# Altium schematic symbol library InterfaceG.SchLib: 3 symbols
Pins are listed as number, name and electrical type; pins without a type are passive.

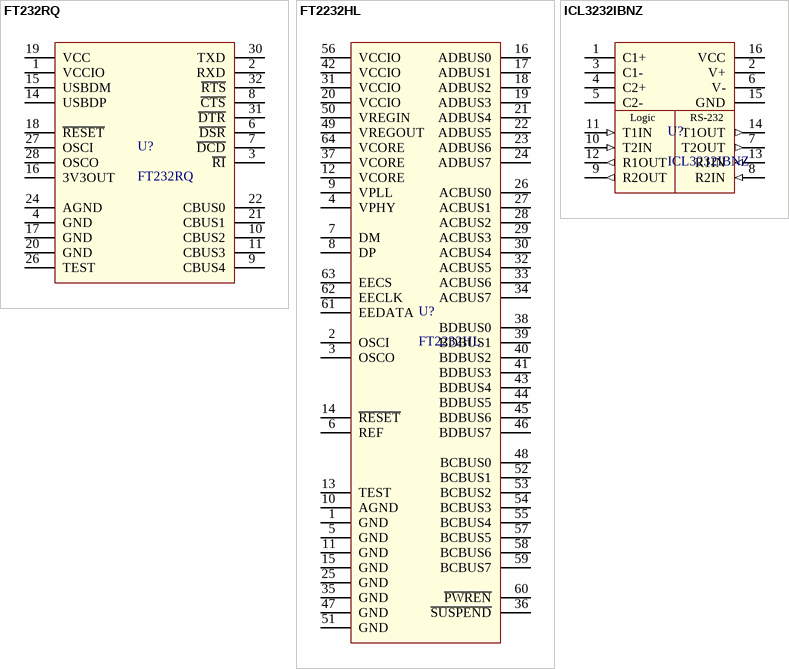
[diagram p0: symbols FT232RQ to ICL3232IBNZ]

## FT232RQ
designator U?
USB to serial UART interface
pins: 1 VCCIO, 2 RXD, 3 ~{RI}, 4 GND, 6 ~{DSR}, 7 ~{DCD}, 8 ~{CTS}, 9 CBUS4, 10 CBUS2, 11 CBUS3, 14 USBDP, 15 USBDM, 16 3V3OUT, 17 GND, 18 ~{RESET}, 19 VCC, 20 GND, 21 CBUS1, 22 CBUS0, 24 AGND, 26 TEST, 27 OSCI, 28 OSCO, 30 TXD, 31 ~{DTR}, 32 ~{RTS}

## FT2232HL
designator U?
Dual High-Speed USB to Multi-purpose UART/FIFO
footprint SQFP50P1200X1200-64N (Shrink QFP, 64-Leads, Body 10x10mm, Pitch 0.5mm, IPC Medium Density)
pins: 1 GND, 2 OSCI, 3 OSCO, 4 VPHY, 5 GND, 6 REF, 7 DM, 8 DP, 9 VPLL, 10 AGND, 11 GND, 12 VCORE, 13 TEST, 14 ~{RESET}, 15 GND, 16 ADBUS0, 17 ADBUS1, 18 ADBUS2, 19 ADBUS3, 20 VCCIO, 21 ADBUS4, 22 ADBUS5, 23 ADBUS6, 24 ADBUS7, 25 GND, 26 ACBUS0, 27 ACBUS1, 28 ACBUS2, 29 ACBUS3, 30 ACBUS4, 31 VCCIO, 32 ACBUS5, 33 ACBUS6, 34 ACBUS7, 35 GND, 36 ~{SUSPEND}, 37 VCORE, 38 BDBUS0, 39 BDBUS1, 40 BDBUS2, 41 BDBUS3, 42 VCCIO, 43 BDBUS4, 44 BDBUS5, 45 BDBUS6, 46 BDBUS7, 47 GND, 48 BCBUS0, 49 VREGOUT, 50 VREGIN, 51 GND, 52 BCBUS1, 53 BCBUS2, 54 BCBUS3, 55 BCBUS4, 56 VCCIO, 57 BCBUS5, 58 BCBUS6, 59 BCBUS7, 60 ~{PWREN}, 61 EEDATA, 62 EECLK, 63 EECS, 64 VCORE

## ICL3232IBNZ
designator U?
RS-232 Transceiver
footprint SOIC127P600-16N (SOIC, 16-Leads, Body 9.9x3.9mm, Pitch 1.27mm, IPC Medium Density)
pins: 1 C1+, 2 V+, 3 C1-, 4 C2+, 5 C2-, 6 V-, 7 T2OUT (out), 8 R2IN (in), 9 R2OUT (out), 10 T2IN (in), 11 T1IN (in), 12 R1OUT (out), 13 R1IN (in), 14 T1OUT (out), 15 GND (power), 16 VCC (power)
text: Logic; RS-232